# Altium schematic symbol library SCH - MCU - INFINEON XMC - INFINEON XMC1301Q024.SchLib: 1 symbol
Pins are listed as number, name and electrical type; pins without a type are passive.

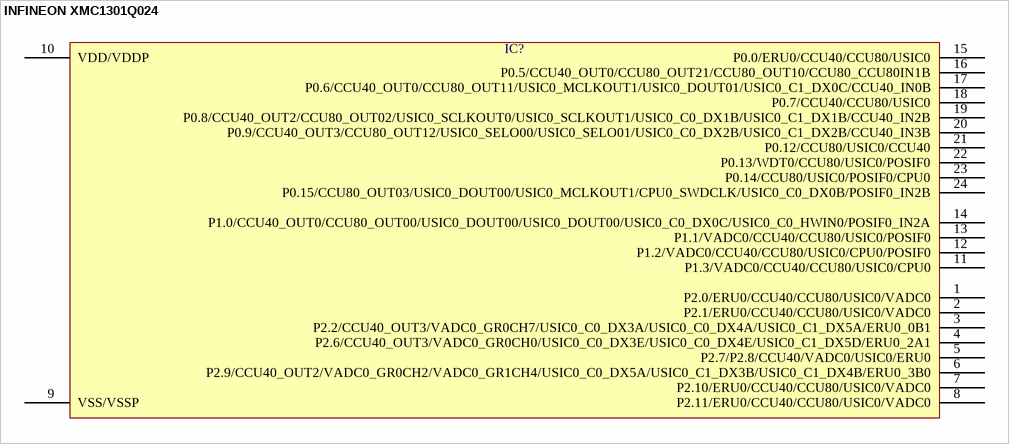
[diagram p0: symbol INFINEON XMC1301Q024]

## INFINEON XMC1301Q024
designator IC?  (value not drawn)
pins: 1 P2.0/ERU0/CCU40/CCU80/USIC0/VADC0, 2 P2.1/ERU0/CCU40/CCU80/USIC0/VADC0, 3 P2.2/CCU40_OUT3/VADC0_GR0CH7/USIC0_C0_DX3A/USIC0_C0_DX4A/USIC0_C1_DX5A/ERU0_0B1, 4 P2.6/CCU40_OUT3/VADC0_GR0CH0/USIC0_C0_DX3E/USIC0_C0_DX4E/USIC0_C1_DX5D/ERU0_2A1, 5 P2.7/P2.8/CCU40/VADC0/USIC0/ERU0, 6 P2.9/CCU40_OUT2/VADC0_GR0CH2/VADC0_GR1CH4/USIC0_C0_DX5A/USIC0_C1_DX3B/USIC0_C1_DX4B/ERU0_3B0, 7 P2.10/ERU0/CCU40/CCU80/USIC0/VADC0, 8 P2.11/ERU0/CCU40/CCU80/USIC0/VADC0, 9 VSS/VSSP, 10 VDD/VDDP, 11 P1.3/VADC0/CCU40/CCU80/USIC0/CPU0, 12 P1.2/VADC0/CCU40/CCU80/USIC0/CPU0/POSIF0, 13 P1.1/VADC0/CCU40/CCU80/USIC0/POSIF0, 14 P1.0/CCU40_OUT0/CCU80_OUT00/USIC0_DOUT00/USIC0_DOUT00/USIC0_C0_DX0C/USIC0_C0_HWIN0/POSIF0_IN2A, 15 P0.0/ERU0/CCU40/CCU80/USIC0, 16 P0.5/CCU40_OUT0/CCU80_OUT21/CCU80_OUT10/CCU80_CCU80IN1B, 17 P0.6/CCU40_OUT0/CCU80_OUT11/USIC0_MCLKOUT1/USIC0_DOUT01/USIC0_C1_DX0C/CCU40_IN0B, 18 P0.7/CCU40/CCU80/USIC0, 19 P0.8/CCU40_OUT2/CCU80_OUT02/USIC0_SCLKOUT0/USIC0_SCLKOUT1/USIC0_C0_DX1B/USIC0_C1_DX1B/CCU40_IN2B, 20 P0.9/CCU40_OUT3/CCU80_OUT12/USIC0_SELO00/USIC0_SELO01/USIC0_C0_DX2B/USIC0_C1_DX2B/CCU40_IN3B, 21 P0.12/CCU80/USIC0/CCU40, 22 P0.13/WDT0/CCU80/USIC0/POSIF0, 23 P0.14/CCU80/USIC0/POSIF0/CPU0, 24 P0.15/CCU80_OUT03/USIC0_DOUT00/USIC0_MCLKOUT1/CPU0_SWDCLK/USIC0_C0_DX0B/POSIF0_IN2B